# Altium footprint library NES_Connector.PcbLib: 1 footprints
Each footprint in its own frame and in the unit in brackets; x right, y up, seen from the top. Pads: shape width x height; smd on the part's side, far side on the other; paste and mask are expansions set on the pad; w line width, h text height; cw(c..) or ccw(c..) is an arc to the next point about the centre after c.
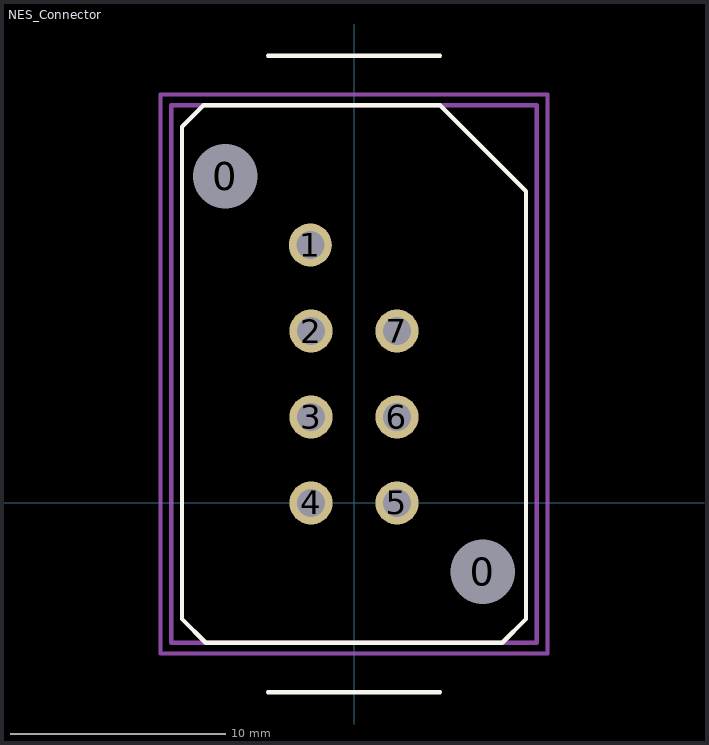
[diagram p0: the footprint, top view; thin cyan lines are the x and y axes]

## NES_Connector [mm]
height 15
pads (9):
  round 2.5 hole 3 unplated: 0(-6,15.2) 0(6,-3.2)
  round 2 hole 1.3: 1(-2.03,12) 2(-2,8) 3(-2,4) 4(-2,0) 5(2,0) 6(2,4) 7(2,8)
Top Overlay:
  lines w0.2: -4,-8.8 4,-8.8 ; -4,20.8 4,20.8 ; -8,-5.4 -6.9,-6.5 6.9,-6.5 8,-5.4 8,14.5 4,18.5 -7,18.5 -8,17.5 -8,-5.4
Assembly Top:
  lines w0.2: -8.5,-6.5 -8.5,18.5 0.5,18.5 8.5,18.5 8.5,9.5 8.5,-6.5 -8.5,-6.5
  text ".Designator" at -6,2 h1
Courtyard:
  lines w0.2: -9,-7 9,-7 9,9 9,19 1,19 -9,19 -9,-7
3D body: height 17.7, standoff -5, extent -8.15,-8.8 8.15,20.8